# Altium schematic symbol library ANT_PORT_GND.Schlib: 1 symbol
Pins are listed as number, name and electrical type; pins without a type are passive.

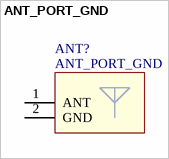
[diagram p0: symbol ANT_PORT_GND]

## ANT_PORT_GND
designator ANT?
pins: 1 ANT, 2 GND